# Altium schematic symbol library GJM1555C1H1R2WB01D.SchLib: 1 symbol
Pins are listed as number, name and electrical type; pins without a type are passive.

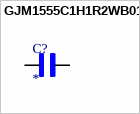
[diagram p0: symbol GJM1555C1H1R2WB01D]

## GJM1555C1H1R2WB01D
designator C?
1.2 pF Â±0.05pF 50V Ceramic Capacitor C0G, NP0 0402 (1005 Metric); MF: Murata; MP: GJM1555C1H1R2WB01D; SnapEDA_Link: https://www.snapeda.com/parts/GJM1555C1H1R2WB01D/Murata/view-part/?ref=snap; Package: 1005 Taiyo Yuden; Value: *; Check_prices: https://www.snapeda.com/parts/GJM1555C1H1R2WB01D/Murata/view-part/?ref=eda
footprint CAPC1005X55N
pins: 1, 2